# EAGLE library part XBEE_SX_PRO (library xbee_sx_pro)
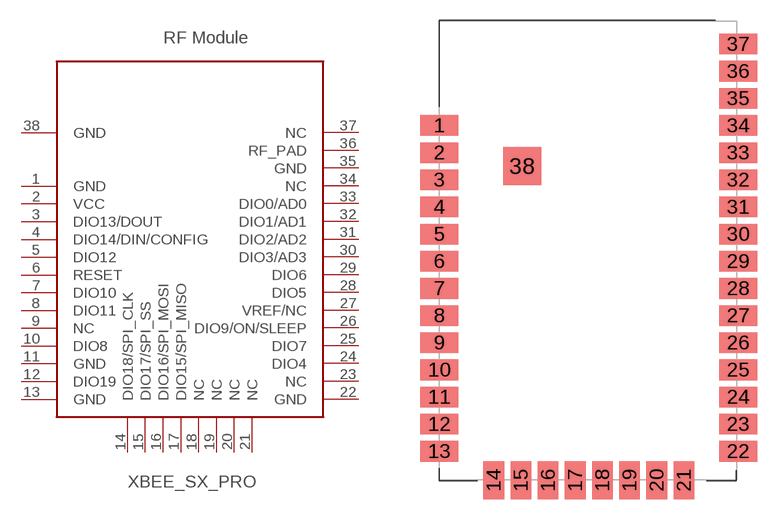
[diagram p0: symbol with the pads of XBEE_SX_PRO; footprint XBEE_SX_PRO]

Designator prefix -

## XBEE_SX_PRO  [XBEE_SX_PRO]
1  GND
2  VCC  pwr
3  DIO13/DOUT
4  DIO14/DIN/CONFIG
5  DIO12
6  RESET
7  DIO10
8  DIO11
9  NC  nc
10  DIO8
11  GND
12  DIO19
13  GND  pwr
14  DIO18/SPI_CLK
15  DIO17/SPI_SS
16  DIO16/SPI_MOSI
17  DIO15/SPI_MISO
18  NC  nc
19  NC  nc
20  NC  nc
21  NC  nc
22  GND  pwr
23  NC  nc
24  DIO4
25  DIO7
26  DIO9/ON/SLEEP
27  VREF/NC
28  DIO5
29  DIO6
30  DIO3/AD3
31  DIO2/AD2
32  DIO1/AD1
33  DIO0/AD0
34  NC  nc
35  GND  pwr
36  RF_PAD
37  NC
38  GND  pwr

## Footprint XBEE_SX_PRO (pad centres in mm)
smd 2.8 x 1.52: 1 0,24; 2 0,22; 3 0,20; 4 0,18; 5 0,16; 6 0,14; 7 0,12; 8 0,10; 9 0,8; 10 0,6; 11 0,4; 12 0,2; 13 0,0; 22 22,0; 23 22,2; 24 22,4; 25 22,6; 26 22,8; 27 22,10; 28 22,12; 29 22,14; 30 22,16; 31 22,18; 32 22,20; 33 22,22; 34 22,24; 35 22,26; 36 22,28; 37 22,30
smd 1.52 x 2.8: 14 4,-2.127; 15 6,-2.127; 16 8,-2.127; 17 10,-2.127; 18 12,-2.127; 19 14,-2.127; 20 16,-2.127; 21 18,-2.127
smd 2.8 x 2.8: 38 6.1,21